# EAGLE library part RES4 (library xess)
Resistor 4-pack Package of four resistors.
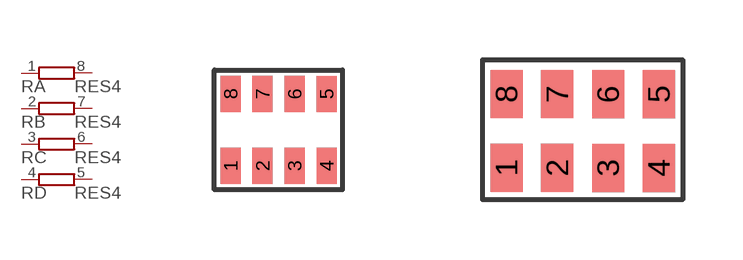
[diagram p1: symbol with the pads of 742C083; footprints 742C083, 743C083]

Designator prefix R; gates A=R1NV0 B=R1NV0 C=R1NV0 D=R1NV0

## RES4742 (DIGIKEY#: 742C083???JPCT-ND; MANF: CTS Resistor Products; MANF#: 742C083???JPTR; MOUSER#: 774-742C083???JP)  [742C083]
1  A:1  pas
2  B:1  pas
3  C:1  pas
4  D:1  pas
5  D:2  pas
6  C:2  pas
7  B:2  pas
8  A:2  pas

## RES4743  [743C083]
Pads as for 742C083

## RES4744  [744C083]
Pads as for 742C083

## RES4741X  [741X083]
Pads as for 742C083

## Footprint 742C083 (pad centres in mm)
smd 0.5 x 0.9: 1 -0.4,-0.9; 2 0.4,-0.9; 3 1.2,-0.9; 4 2,-0.9; 5 2,0.9; 6 1.2,0.9; 7 0.4,0.9; 8 -0.4,0.9

## Footprint 743C083 (pad centres in mm)
smd 0.8 x 1.2: 1 -1.9,-0.9; 2 -0.63,-0.9; 3 0.64,-0.9; 4 1.91,-0.9; 5 1.91,0.94; 6 0.64,0.94; 7 -0.63,0.94; 8 -1.9,0.94

## Footprint 744C083 (pad centres in mm)
smd 0.8 x 1.3: 1 -1.9,-1.5; 2 -0.63,-1.5; 3 0.64,-1.5; 4 1.91,-1.5; 5 1.91,1.54; 6 0.64,1.54; 7 -0.63,1.54; 8 -1.9,1.54

## Footprint 741X083 (pad centres in mm)
smd 0.3 x 0.5: 1 -0.75,-0.5; 2 -0.25,-0.5; 3 0.25,-0.5; 4 0.75,-0.5; 5 0.75,0.5; 6 0.25,0.5; 7 -0.25,0.5; 8 -0.75,0.5